# Altium schematic symbol library HV_LIB.SchLib: 5 symbols
Pins are listed as number, name and electrical type; pins without a type are passive.

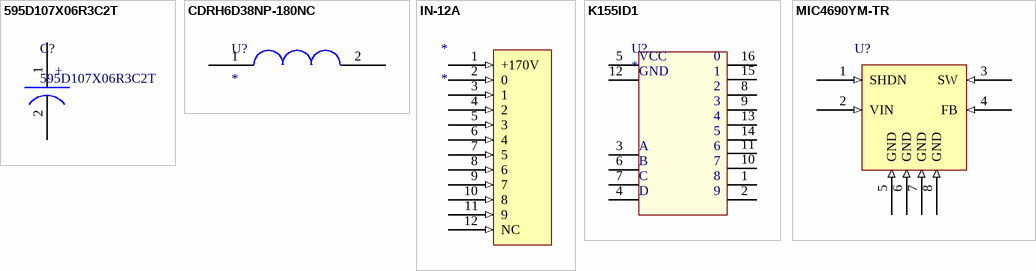
[diagram p0: symbols 595D107X06R3C2T to MIC4690YM-TR]

## 595D107X06R3C2T
designator C?
595D107X06R3C2T / 100uF, 6.3V
footprint 595D107X06R3C2T
pins: 1, 2
text: +

## CDRH6D38NP-180NC
designator U?
footprint CDRH6D38NP-180NC
pins: 1, 2

## IN-12A
designator *
footprint IN-12A
pins: 1 +170V (in), 2 0 (in), 3 1 (in), 4 2 (in), 5 3 (in), 6 4 (in), 7 5 (in), 8 6 (in), 9 7 (in), 10 8 (in), 11 9 (in), 12 NC (in)

## K155ID1
designator U?
footprint Socket_DIP_16
pins: 1, 2, 3, 4, 5, 6, 7, 8, 9, 10, 11, 12, 13, 14, 15, 16
text: VCC; 0; GND; A; B; C; D

## MIC4690YM-TR
designator U?  (value not drawn)
footprint TPS5402
pins: 1 SHDN (in), 2 VIN (in), 3 SW (in), 4 FB (in), 5 GND (in), 6 GND (in), 7 GND (in), 8 GND (in)